# Altium footprint library CUS-12B_switch.PcbLib: 1 footprints
Each footprint in its own frame and in the unit in brackets; x right, y up, seen from the top. Pads: shape width x height; smd on the part's side, far side on the other; paste and mask are expansions set on the pad; w line width, h text height; cw(c..) or ccw(c..) is an arc to the next point about the centre after c.
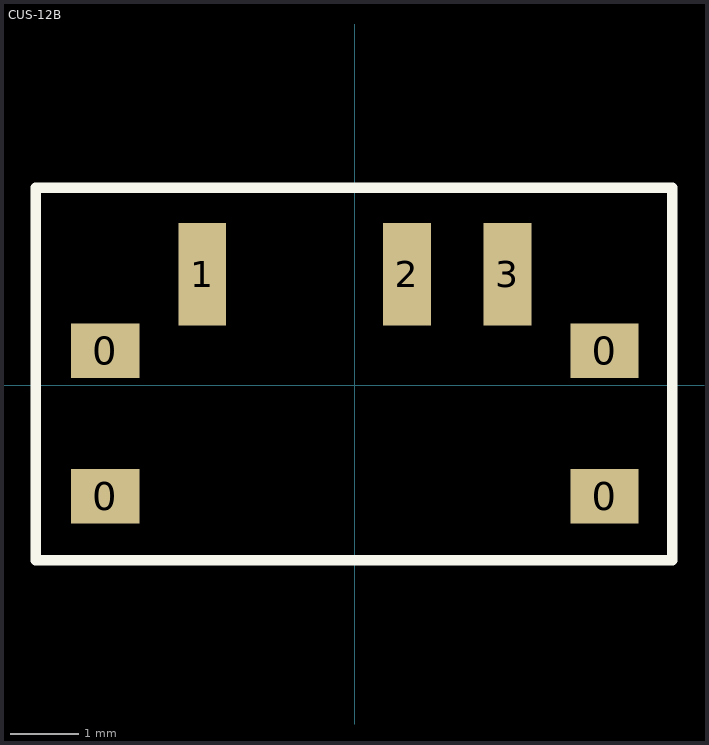
[diagram p0: the footprint, top view; thin cyan lines are the x and y axes]

## CUS-12B [mm] "CUS-12B switch"
pads (7):
  rect 1x0.8 smd: 0(-3.658,-1.626) 0(-3.658,0.508) 0(3.658,-1.626) 0(3.658,0.508)
  rect 0.7x1.5 smd: 1(-2.235,1.626) 2(0.762,1.626) 3(2.235,1.626)
Top Overlay:
  lines w0.152: -4.674,-2.565 4.648,-2.565 4.648,2.896 -4.674,2.896 -4.674,-2.565